# Altium footprint library LIBRARIE_PASCAL.PcbLib: 7 footprints
Each footprint in its own frame and in the unit in brackets; x right, y up, seen from the top. Pads: shape width x height; smd on the part's side, far side on the other; paste and mask are expansions set on the pad; w line width, h text height; cw(c..) or ccw(c..) is an arc to the next point about the centre after c.
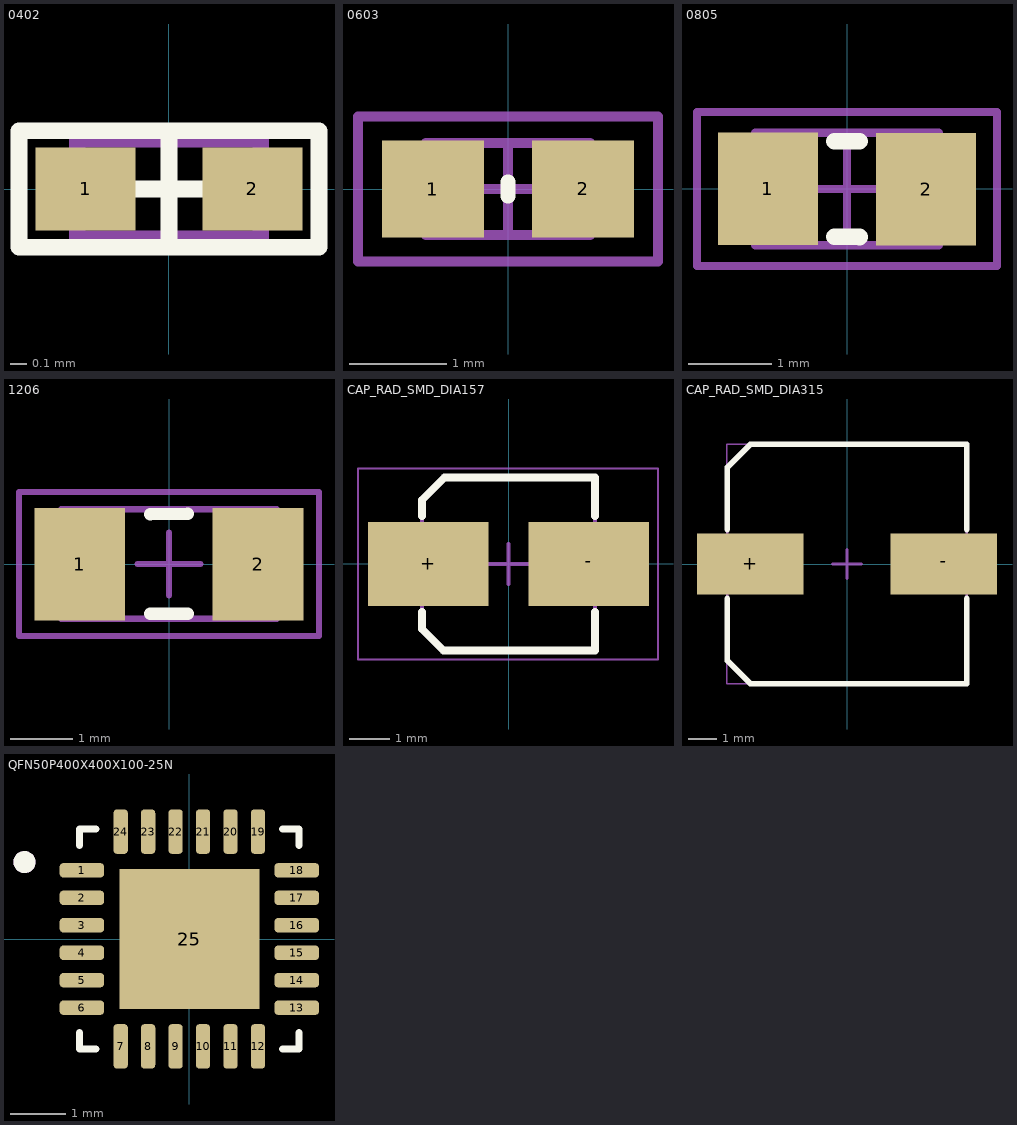
[diagram p0: the footprints below, top view; thin cyan lines are the x and y axes]

## 0402 [mm] "Chip Capacitor, Body 1.0x0.5mm, IPC High Density"
height 1.3
pads (2):
  rect 0.6x0.5 smd: 1(-0.5,0) 2(0.5,0)
Top Overlay:
  lines w0.1: -0.3,0 0.3,0 ; 0,-0.3 0,0.3 ; -0.9,-0.35 0.9,-0.35 0.9,0.35 -0.9,0.35 -0.9,-0.35
Mechanical 13:
  lines w0.1: -0.55,-0.3 0.55,-0.3 0.55,0.3 -0.55,0.3 -0.55,-0.3
3D body: height 1.3, standoff 0, extent -0.55,-0.3 0.55,0.3

## 0603 [mm]
pads (2):
  rect 1.05x1 smd: 1(-0.775,0) 2(0.775,0)
Top Overlay:
  lines w0.152: 0,-0.076 0,0.076
Mechanical 13:
  lines w0.1: -0.85,-0.475 0.85,-0.475 0.85,0.475 -0.85,0.475 -0.85,-0.475
Mechanical 15:
  lines w0.1: -0.475,0 0.475,0 ; 0,-0.475 0,0.475 ; -1.55,-0.75 1.55,-0.75 1.55,0.75 -1.55,0.75 -1.55,-0.75
3D body: height 0.55, standoff 0, extent -0.85,-0.475 0.85,0.475

## 0805 [mm]
pads (2):
  rect 1.2x1.35 smd: 1(-0.95,0) 2(0.95,0)
Top Overlay:
  lines w0.2: -0.15,-0.575 0.15,-0.575 ; -0.15,0.575 0.15,0.575
Mechanical 13:
  lines w0.1: -1.1,-0.675 -1.1,0.675 1.1,0.675 1.1,-0.675 -1.1,-0.675
Mechanical 15:
  lines w0.1: -0.5,0 0.5,0 ; 0,-0.5 0,0.5 ; -1.8,-0.925 -1.8,0.925 1.8,0.925 1.8,-0.925 -1.8,-0.925
3D body: height 0.65, standoff 0, extent -1.1,-0.675 1.1,0.675

## 1206 [mm]
pads (2):
  rect 1.45x1.8 smd: 1(-1.425,0) 2(1.425,0)
Top Overlay:
  lines w0.2: -0.3,-0.8 0.3,-0.8 ; -0.3,0.8 0.3,0.8
Mechanical 13:
  lines w0.1: -1.725,-0.875 1.725,-0.875 1.725,0.875 -1.725,0.875 -1.725,-0.875
Mechanical 15:
  lines w0.1: -0.5,0 0.5,0 ; 0,-0.5 0,0.5 ; -2.4,-1.15 2.4,-1.15 2.4,1.15 -2.4,1.15 -2.4,-1.15
3D body: height 0.7, standoff 0, extent -1.725,-0.875 1.725,0.875

## CAP_RAD_SMD_DIA157 [mm]
pads (2):
  rect 3x2.1 smd: +(-2,0) -(2,0)
Top Overlay:
  lines w0.2: -2.15,-1.2 -2.15,-1.625 -1.625,-2.15 2.15,-2.15 2.15,-1.2 ; -2.15,1.2 -2.15,1.6 -1.6,2.15 2.15,2.15 2.15,1.2
Mechanical 13:
  lines w0.1: -2.15,-1.625 -1.625,-2.15 2.15,-2.15 2.15,2.15 -1.6,2.15 -2.15,1.6 -2.15,-1.625
Mechanical 15:
  lines w0.05: -3.75,-2.375 -3.75,2.375 3.725,2.375 3.725,-2.375 -3.75,-2.375
  lines w0.1: -0.5,0 0.5,0 ; 0,-0.5 0,0.5
3D body: height 5.2, standoff 0, extent -2.133,-2.146 2.15,2.146

## CAP_RAD_SMD_DIA315 [mm]
pads (2):
  rect 3.7x2.1 smd: +(-3.35,0) -(3.35,0)
Top Overlay:
  lines w0.2: -4.15,-1.2 -4.15,-3.35 -3.35,-4.15 4.15,-4.15 4.15,-1.2 ; -4.15,1.2 -4.15,3.35 -3.35,4.15 4.15,4.15 4.15,1.2
Mechanical 13:
  lines w0.1: -4.15,-3.35 -4.15,3.35 -3.35,4.15 4.15,4.15 4.15,-4.15 -3.35,-4.15 -4.15,-3.35
Mechanical 15:
  lines w0.05: -4.175,-4.15 4.15,-4.15 4.15,4.15 -4.175,4.15 -4.175,-4.15
  lines w0.1: -0.5,0 0.5,0 ; 0,-0.5 0,0.5
3D body: height 6, standoff 0, extent -3.968,-3.992 4,3.992

## QFN50P400X400X100-25N [mm]
pads (25):
  rrect50% 0.81x0.26 smd paste-0.025 mask+0.05: 1(-1.955,1.25) 2(-1.955,0.75) 3(-1.955,0.25) 4(-1.955,-0.25) 5(-1.955,-0.75) 6(-1.955,-1.25) 13(1.955,-1.25) 14(1.955,-0.75) 15(1.955,-0.25) 16(1.955,0.25) 17(1.955,0.75) 18(1.955,1.25)
  rrect50% 0.26x0.81 smd paste-0.025 mask+0.05: 7(-1.25,-1.955) 8(-0.75,-1.955) 9(-0.25,-1.955) 10(0.25,-1.955) 11(0.75,-1.955) 12(1.25,-1.955) 19(1.25,1.955) 20(0.75,1.955) 21(0.25,1.955) 22(-0.25,1.955) 23(-0.75,1.955) 24(-1.25,1.955)
  rect 2.546x2.546 smd paste-0.025 mask+0.05: 25(0,0)
Top Overlay:
  circle w0.2: c-3,1.4 r0.1
  lines w0.127: -2,-1.7 -2,-2 -1.7,-2 ; -2,1.7 -2,2 -1.7,2 ; 1.7,-2 2,-2 2,-1.7 ; 1.7,2 2,2 2,1.7
Top Paste:
  region: -1.125,1.125 -0.135,1.125 -0.135,0.135 -1.125,0.135
  region: 0.135,1.125 1.125,1.125 1.125,0.135 0.135,0.135
  region: 0.135,-0.135 1.125,-0.135 1.125,-1.125 0.135,-1.125
  region: -1.125,-0.135 -0.135,-0.135 -0.135,-1.125 -1.125,-1.125
Mechanical 4:
  circle w0.2: c-3,1.4 r0.1
  circle w0.2: c-3,1.4 r0.1
3D body: height 0.25, standoff 0, extent 0,0 0,0
3D body "User Library-QFN 24 4x4.step": height 0.9, standoff 0, extent -2.002,-2.002 2.002,2.002